# Altium integrated library VoltageConverter_old.IntLib: 87 symbols
Pins are listed as number, name and electrical type; pins without a type are passive.

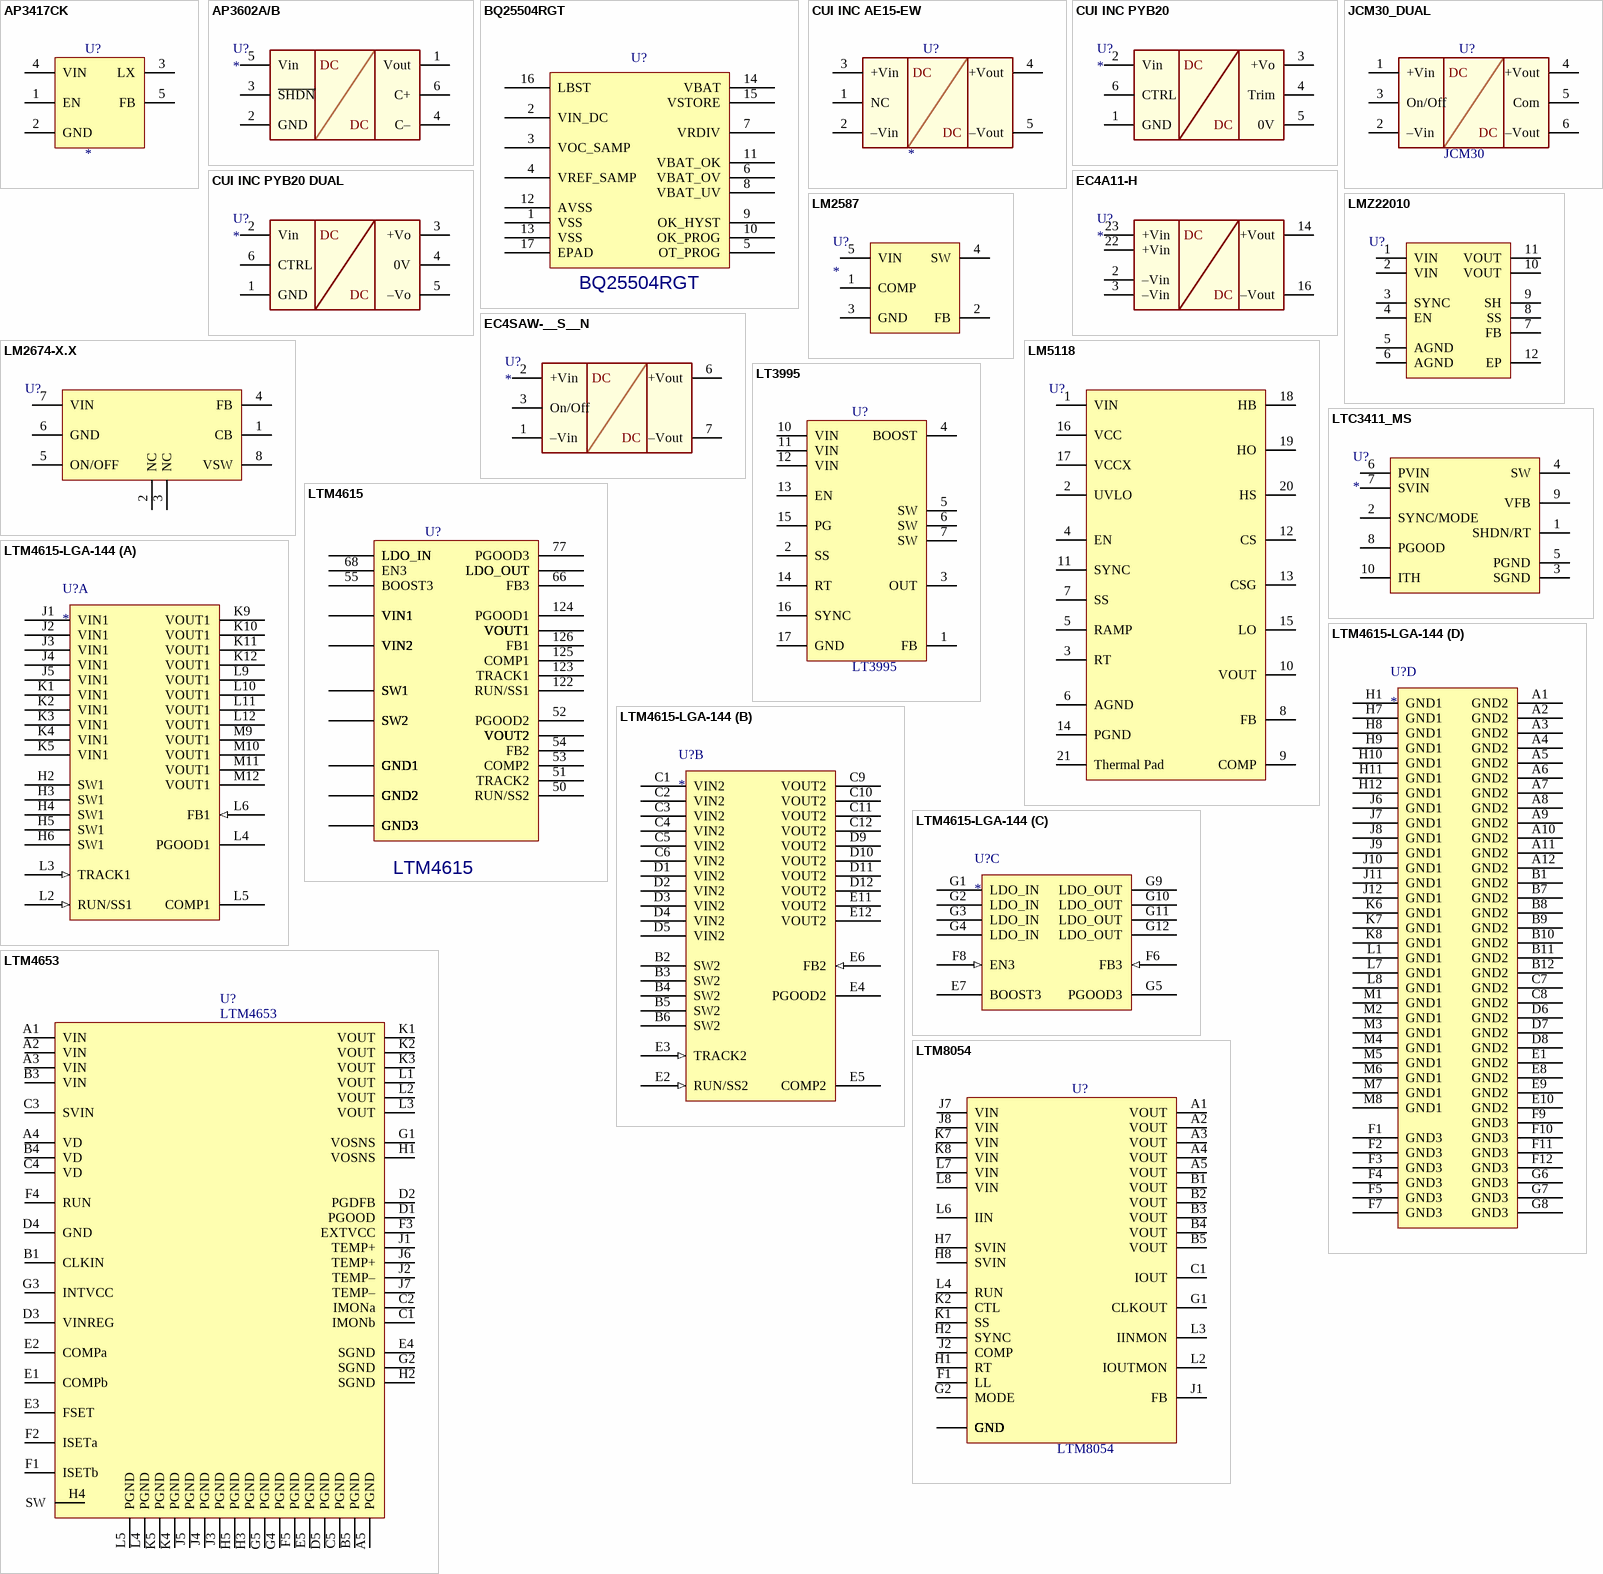
[diagram p0: symbols AP3417CK to LTM8054]

## AP3417CK
designator U?
1.5MHZ Synchronous Step-Down DC-DC Converter; Value: *
footprint SOT23-5 P0.95 C1.6x3.0 H1.3 (SOT23, 5-Leads, Body 1.6x3.0mm, Pitch 0.95mm, IPC Medium Density)
pins: 1 EN, 2 GND, 3 LX, 4 VIN, 5 FB

## AP3602A/B
designator U?
100mA REGULATED CHARGE PUMP; Value: *
footprint SOT23-6 P0.95 C1.5x3.0 H1.3 (SOT23, 6-Leads, Body 1.6x3.0mm, Pitch 0.95mm, IPC Medium Density)
pins: 1 Vout, 2 GND, 3 ~{SHDN}, 4 C–, 5 Vin, 6 C+
text: DC

## BQ25504RGT
designator U?
Ultra Low Power Boost Converter with  Battery Management; Value: BQ25504RGT
footprint QFN16 P0.5 T1.5x1.5 C3.0x3.0 H1.0
pins: 1 VSS, 2 VIN_DC, 3 VOC_SAMP, 4 VREF_SAMP, 5 OT_PROG, 6 VBAT_OV, 7 VRDIV, 8 VBAT_UV, 9 OK_HYST, 10 OK_PROG, 11 VBAT_OK, 12 AVSS, 13 VSS, 14 VBAT, 15 VSTORE, 16 LBST, 17 EPAD

## CUI INC AE15-EW
designator U?
DC-DC Converter; Value: *
footprint CUI INC AE15-EW (DC-DC Converter)
pins: 1 NC, 2 –Vin, 3 +Vin, 4 +Vout, 5 –Vout
text: DC

## CUI INC PYB20
designator U?
DC-DC Converter; Value: *
footprint CUI INC PYB20 (DC/DC Converter)
pins: 1 GND, 2 Vin, 3 +Vo, 4 Trim, 5 0V, 6 CTRL
text: DC

## CUI INC PYB20 DUAL
designator U?
DC-DC Converter; Value: *
footprint CUI INC PYB20 (DC/DC Converter)
pins: 1 GND, 2 Vin, 3 +Vo, 4 0V, 5 –Vo, 6 CTRL
text: DC

## EC4A11-H
designator U?
CINCON DC/DC CONVERTER IN 18-36V OUT 5V 1A; Value: *
footprint CINCON CASE A (CINCON DC/DC Converter, Body 20.30x31.80mm, Height 10.2mm)
pins: 2 –Vin, 3 –Vin, 9 NC hidden, 10 NC hidden, 11 NC hidden, 14 +Vout, 15 NC hidden, 16 –Vout, 22 +Vin, 23 +Vin
text: DC

## EC4SAW-__S__N
designator U?
CINCON EC4SAW-__S__N 5-6Watts Wide Input DC/DC Converter; Value: *
footprint CINCON CASE SA (CINCON DC/DC Converter, Body 9.2x21.8mm, Height 11.1mm)
pins: 1 –Vin, 2 +Vin, 3 On/Off, 5 NC hidden, 6 +Vout, 7 –Vout, 8 NC hidden
text: DC

## JCM30_DUAL
designator U?, comment JCM30
XP Power DC-DC Converter; Value: JCM30; Manufacturer: XP Power; Mouser No.: *
footprint JCM30 Series (XP Power DC/DC Converter, Body 25.4x25.4mm, Height 10.4mm)
pins: 1 +Vin, 2 –Vin, 3 On/Off, 4 +Vout, 5 Com, 6 –Vout
text: DC

## LM2587
designator U?
SIMPLE SWITCHER 5A Flyback Regulator; Value: *
footprint DPAK5 P1.7 C8.9x10.4 H4.6 (D2-PAK, 6-Pads, Body 8.9x10.4mm (max), IPC Medium Density)
pins: 1 COMP, 2 FB, 3 GND, 4 SW, 5 VIN

## LM2674-X.X
designator U?
SIMPLE SWITCHER Step-Down Voltage Regulator; Value: *
footprint SO8 P1.27 C4.0X5.0 H1.75 (8-Pin Small Outline Integrated Circuit 1.27 mm Pitch, IPC Medium Density)
pins: 1 CB, 2 NC, 3 NC, 4 FB, 5 ON/OFF, 6 GND, 7 VIN, 8 VSW

## LM5118
designator U?
LM5118, LM5118-Q1 Wide Voltage Range Buck-Boost Controller; Value: *
footprint TSSOP20 P0.65 C4.5X6.6 H1.2 T3.0x4.2 (TSSOP, 20-Leads, Body 4.5x6.60mm, Pitch 0.65mm, Thermal Pad 3.0x4.2mm)
pins: 1 VIN, 2 UVLO, 3 RT, 4 EN, 5 RAMP, 6 AGND, 7 SS, 8 FB, 9 COMP, 10 VOUT, 11 SYNC, 12 CS, 13 CSG, 14 PGND, 15 LO, 16 VCC, 17 VCCX, 18 HB, 19 HO, 20 HS, 21 Thermal Pad

## LMZ22010
designator U?
SIMPLE SWITCHER  step-down DC-DC; Value: *
footprint LMZ22010 (TO, 12-Leads, Body 15x15mm, Pitch 1.27mm, Lead Span 17.8mm, NSC Recommended)
pins: 1 VIN, 2 VIN, 3 SYNC, 4 EN, 5 AGND, 6 AGND, 7 FB, 8 SS, 9 SH, 10 VOUT, 11 VOUT, 12 EP

## LT3995
designator U?
60V, 3A, 2MHz Step-Down Switching Regulator; Value: LT3995
footprint MSOP16 P0.5 C3.0X4.0 T1.6X2.8 H1.1 (MSOP, 16-Leads, Body 3.0x4.0mm, Thermal 1.6x2.8, Pitch 0.50mm, IPC Medium Density)
pins: 1 FB, 2 SS, 3 OUT, 4 BOOST, 5 SW, 6 SW, 7 SW, 10 VIN, 11 VIN, 12 VIN, 13 EN, 14 RT, 15 PG, 16 SYNC, 17 GND

## LTC3411_MS
designator U?
Synchronous  Step-Down DC/DC Converter, 1.25A, 4MHz; Value: *
footprint MSOP10 P0.5 C3.0X3.0 H1.1 (MSOP, 10-Leads, Body 3.0x3.0mm, Pitch 0.50mm, IPC Medium Density)
pins: 1 SHDN/RT "Combination Shutdown and Timing Resistor Pin. The oscillator frequency is programmed by connecting a resistor from this pin to ground. Forcing this pin to SVIN causes the device to be shut down. In shutdown all functions are (See Datasheet)", 2 SYNC/MODE "Combination Mode Selection and Oscillator Synchronization Pin. This pin controls the operation of the device. When tied to SVIN or SGND, Burst Mode operation or pulse skipping mode is selected, respectively. If this pin is (See Datasheet)", 3 SGND "The Signal Ground Pin. All small-signal components and compensation components should be connected to this ground (see Board Layout Considerations).", 4 SW "The Switch Node Connection to the Inductor. This pin swings from PVIN to PGND.", 5 PGND "Main Power Ground Pin. Connect to the (-) terminal of COUT, and (-) terminal of CIN.", 6 PVIN "Main Supply Pin. Must be closely decoupled to PGND.", 7 SVIN "The Signal Power Pin. All active circuitry is powered from this pin. Must be closely decoupled to SGND. SVIN must be greater than or equal to PVIN.", 8 PGOOD "The Power Good Pin. This common drain logic output is pulled to SGND when the output voltage is not within +/-7% of regulation.", 9 VFB "Receives the feedback voltage from the external resistive divider across the output. Nominal voltage for this pin is 0.8V.", 10 ITH "Error Amplifier Compensation Point. The current comparator threshold increases with this control voltage. Nominal voltage range for this pin is 0.4V to 1.4V."

## LTM4615
designator U?
Triple Output, Low Voltage  DC/DC µModule Regulator; Value: *
footprint LGA144 P1.27 C15X15 H2.9 (Footprint not found)
pins: 1 GND2, 2 GND2, 3 GND2, 4 GND2, 5 GND2, 6 GND2, 7 GND2, 8 GND2, 9 GND2, 10 GND2, 11 GND2, 12 GND2, 13 GND2, 14 SW2, 15 SW2, 16 SW2, 17 SW2, 18 SW2, 19 GND2, 20 GND2, 21 GND2, 22 GND2, 23 GND2, 24 GND2, 25 VIN2, 26 VIN2, 27 VIN2, 28 VIN2, 29 VIN2, 30 VIN2, 31 GND2, 32 GND2, 33 VOUT2, 34 VOUT2, 35 VOUT2, 36 VOUT2, 37 VIN2, 38 VIN2, 39 VIN2, 40 VIN2, 41 VIN2, 42 GND2, 43 GND2, 44 GND2, 45 VOUT2, 46 VOUT2, 47 VOUT2, 48 VOUT2, 49 GND2, 50 RUN/SS2, 51 TRACK2, 52 PGOOD2, 53 COMP2, 54 FB2, 55 BOOST3, 56 GND2, 57 GND2, 58 GND2, 59 VOUT2, 60 VOUT2, 61 GND3, 62 GND3, 63 GND3, 64 GND3, 65 GND3, 66 FB3, 67 GND3, 68 EN3, 69 GND3, 70 GND3, 71 GND3, 72 GND3, 73 LDO_IN, 74 LDO_IN, 75 LDO_IN, 76 LDO_IN, 77 PGOOD3, 78 GND3, 79 GND3, 80 GND3, 81 LDO_OUT, 82 LDO_OUT, 83 LDO_OUT, 84 LDO_OUT, 85 GND1, 86 SW1, 87 SW1, 88 SW1, 89 SW1, 90 SW1, 91 GND1, 92 GND1, 93 GND1, 94 GND1, 95 GND1, 96 GND1, 97 VIN1, 98 VIN1, 99 VIN1, 100 VIN1, 101 VIN1, 102 GND1, 103 GND1, 104 GND1, 105 GND1, 106 GND1, 107 GND1, 108 GND1, 109 VIN1, 110 VIN1, 111 VIN1, 112 VIN1, 113 VIN1, 114 GND1, 115 GND1, 116 GND1, 117 VOUT1, 118 VOUT1, 119 VOUT1, 120 VOUT1, 121 GND1, 122 RUN/SS1, 123 TRACK1, 124 PGOOD1, 125 COMP1, 126 FB1, 127 GND1, 128 GND1, 129 VOUT1, 130 VOUT1, 131 VOUT1, 132 VOUT1, 133 GND1, 134 GND1, 135 GND1, 136 GND1, 137 GND1, 138 GND1, 139 GND1, 140 GND1, 141 VOUT1, 142 VOUT1, 143 VOUT1, 144 VOUT1

## LTM4615-LGA-144
designator U?
Triple Output, Low Voltage  DC/DC µModule Regulator; value: *
footprint LGA-144-05-08-1816_V (LGA, 144-Leads, Body 15x15mm, Pitch 1.27mm)
part A pins: H2 SW1 "The switching node of the circuit is used for testing purposes. This can be connected to copper on the board for improved thermal performance. SW1 and The switching node of the circuit is used for testing purposes. This can (See Datasheet)", H3 SW1 "The switching node of the circuit is used for testing purposes. This can be connected to copper on the board for improved thermal performance. SW1 and The switching node of the circuit is used for testing purposes. This can (See Datasheet)", H4 SW1 "The switching node of the circuit is used for testing purposes. This can be connected to copper on the board for improved thermal performance. SW1 and The switching node of the circuit is used for testing purposes. This can (See Datasheet)", H5 SW1 "The switching node of the circuit is used for testing purposes. This can be connected to copper on the board for improved thermal performance. SW1 and The switching node of the circuit is used for testing purposes. This can (See Datasheet)", H6 SW1 "The switching node of the circuit is used for testing purposes. This can be connected to copper on the board for improved thermal performance. SW1 and The switching node of the circuit is used for testing purposes. This can (See Datasheet)", J1 VIN1 (power) "Power Input Pins. Apply input voltage between these pins and GND pins. Recommend placing input decoupling capacitance directly between VIN pins and GND pins.", J2 VIN1 (power) "Power Input Pins. Apply input voltage between these pins and GND pins. Recommend placing input decoupling capacitance directly between VIN pins and GND pins.", J3 VIN1 (power) "Power Input Pins. Apply input voltage between these pins and GND pins. Recommend placing input decoupling capacitance directly between VIN pins and GND pins.", J4 VIN1 (power) "Power Input Pins. Apply input voltage between these pins and GND pins. Recommend placing input decoupling capacitance directly between VIN pins and GND pins.", J5 VIN1 (power) "Power Input Pins. Apply input voltage between these pins and GND pins. Recommend placing input decoupling capacitance directly between VIN pins and GND pins.", K1 VIN1 (power) "Power Input Pins. Apply input voltage between these pins and GND pins. Recommend placing input decoupling capacitance directly between VIN pins and GND pins.", K2 VIN1 (power) "Power Input Pins. Apply input voltage between these pins and GND pins. Recommend placing input decoupling capacitance directly between VIN pins and GND pins.", K3 VIN1 (power) "Power Input Pins. Apply input voltage between these pins and GND pins. Recommend placing input decoupling capacitance directly between VIN pins and GND pins.", K4 VIN1 (power) "Power Input Pins. Apply input voltage between these pins and GND pins. Recommend placing input decoupling capacitance directly between VIN pins and GND pins.", K5 VIN1 (power) "Power Input Pins. Apply input voltage between these pins and GND pins. Recommend placing input decoupling capacitance directly between VIN pins and GND pins.", K9 VOUT1 (power) "Power Output Pins. Apply output load between these pins and GND pins. Recommend placing output decoupling capacitance directly between these pins and GND pins. Review Table 4.", K10 VOUT1 (power) "Power Output Pins. Apply output load between these pins and GND pins. Recommend placing output decoupling capacitance directly between these pins and GND pins. Review Table 4.", K11 VOUT1 (power) "Power Output Pins. Apply output load between these pins and GND pins. Recommend placing output decoupling capacitance directly between these pins and GND pins. Review Table 4.", K12 VOUT1 (power) "Power Output Pins. Apply output load between these pins and GND pins. Recommend placing output decoupling capacitance directly between these pins and GND pins. Review Table 4.", L2 RUN/SS1 (in), L3 TRACK1 (in) "Output Voltage Tracking Pins. When the module is configured as a master output, then a soft-start capacitor is placed on the RUN/SS pin to ground to control the master ramp rate, or an external ramp can be applied to the (See Datasheet)", L4 PGOOD1 (oc) "Output Voltage Power Good Indicator. Open-drain logic output that is pulled to ground when the output voltage is not within +/-7.5% of the regulation point.", L5 COMP1 "Current Control Threshold and Error Amplifier Compensation Point. The current comparator threshold increases with this control voltage. Two power modules can current share when this pin is connected in parallel with the (See Datasheet)", L6 FB1 (in) "The Negative Input of the Switching Regulators’ Error Amplifier. Internally, these pins are connected to VOUT with a 4.99k precision resistor. Different output voltages can be programmed with an additional resistor betwee(See Datasheet)", L9 VOUT1 (power) "Power Output Pins. Apply output load between these pins and GND pins. Recommend placing output decoupling capacitance directly between these pins and GND pins. Review Table 4.", L10 VOUT1 (power) "Power Output Pins. Apply output load between these pins and GND pins. Recommend placing output decoupling capacitance directly between these pins and GND pins. Review Table 4.", L11 VOUT1 (power) "Power Output Pins. Apply output load between these pins and GND pins. Recommend placing output decoupling capacitance directly between these pins and GND pins. Review Table 4.", L12 VOUT1 (power) "Power Output Pins. Apply output load between these pins and GND pins. Recommend placing output decoupling capacitance directly between these pins and GND pins. Review Table 4.", M9 VOUT1 (power) "Power Output Pins. Apply output load between these pins and GND pins. Recommend placing output decoupling capacitance directly between these pins and GND pins. Review Table 4.", M10 VOUT1 (power) "Power Output Pins. Apply output load between these pins and GND pins. Recommend placing output decoupling capacitance directly between these pins and GND pins. Review Table 4.", M11 VOUT1 (power) "Power Output Pins. Apply output load between these pins and GND pins. Recommend placing output decoupling capacitance directly between these pins and GND pins. Review Table 4.", M12 VOUT1 (power) "Power Output Pins. Apply output load between these pins and GND pins. Recommend placing output decoupling capacitance directly between these pins and GND pins. Review Table 4."
part B pins: B2 SW2 "The switching node of the circuit is used for testing purposes. This can be connected to copper on the board for improved thermal performance. SW1 and SW2 must be floating on separate copper planes.", B3 SW2 "The switching node of the circuit is used for testing purposes. This can be connected to copper on the board for improved thermal performance. SW1 and SW2 must be floating on separate copper planes.", B4 SW2 "The switching node of the circuit is used for testing purposes. This can be connected to copper on the board for improved thermal performance. SW1 and SW2 must be floating on separate copper planes.", B5 SW2 "The switching node of the circuit is used for testing purposes. This can be connected to copper on the board for improved thermal performance. SW1 and SW2 must be floating on separate copper planes.", B6 SW2 "The switching node of the circuit is used for testing purposes. This can be connected to copper on the board for improved thermal performance. SW1 and SW2 must be floating on separate copper planes.", C1 VIN2 (power) "Power Input Pins. Apply input voltage between these pins and GND pins. Recommend placing input decoupling capacitance directly between VIN pins and GND pins.", C2 VIN2 (power) "Power Input Pins. Apply input voltage between these pins and GND pins. Recommend placing input decoupling capacitance directly between VIN pins and GND pins.", C3 VIN2 (power) "Power Input Pins. Apply input voltage between these pins and GND pins. Recommend placing input decoupling capacitance directly between VIN pins and GND pins.", C4 VIN2 (power) "Power Input Pins. Apply input voltage between these pins and GND pins. Recommend placing input decoupling capacitance directly between VIN pins and GND pins.", C5 VIN2 (power) "Power Input Pins. Apply input voltage between these pins and GND pins. Recommend placing input decoupling capacitance directly between VIN pins and GND pins.", C6 VIN2 (power) "Power Input Pins. Apply input voltage between these pins and GND pins. Recommend placing input decoupling capacitance directly between VIN pins and GND pins.", C9 VOUT2 (power) "Power Output Pins. Apply output load between these pins and GND pins. Recommend placing output decoupling capacitance directly between these pins and GND pins. Review Table 4.", C10 VOUT2 (power) "Power Output Pins. Apply output load between these pins and GND pins. Recommend placing output decoupling capacitance directly between these pins and GND pins. Review Table 4.", C11 VOUT2 (power) "Power Output Pins. Apply output load between these pins and GND pins. Recommend placing output decoupling capacitance directly between these pins and GND pins. Review Table 4.", C12 VOUT2 (power) "Power Output Pins. Apply output load between these pins and GND pins. Recommend placing output decoupling capacitance directly between these pins and GND pins. Review Table 4.", D1 VIN2 (power) "Power Input Pins. Apply input voltage between these pins and GND pins. Recommend placing input decoupling capacitance directly between VIN pins and GND pins.", D2 VIN2 (power) "Power Input Pins. Apply input voltage between these pins and GND pins. Recommend placing input decoupling capacitance directly between VIN pins and GND pins.", D3 VIN2 (power) "Power Input Pins. Apply input voltage between these pins and GND pins. Recommend placing input decoupling capacitance directly between VIN pins and GND pins.", D4 VIN2 (power) "Power Input Pins. Apply input voltage between these pins and GND pins. Recommend placing input decoupling capacitance directly between VIN pins and GND pins.", D5 VIN2 (power) "Power Input Pins. Apply input voltage between these pins and GND pins. Recommend placing input decoupling capacitance directly between VIN pins and GND pins.", D9 VOUT2 (power) "Power Output Pins. Apply output load between these pins and GND pins. Recommend placing output decoupling capacitance directly between these pins and GND pins. Review Table 4.", D10 VOUT2 (power) "Power Output Pins. Apply output load between these pins and GND pins. Recommend placing output decoupling capacitance directly between these pins and GND pins. Review Table 4.", D11 VOUT2 (power) "Power Output Pins. Apply output load between these pins and GND pins. Recommend placing output decoupling capacitance directly between these pins and GND pins. Review Table 4.", D12 VOUT2 (power) "Power Output Pins. Apply output load between these pins and GND pins. Recommend placing output decoupling capacitance directly between these pins and GND pins. Review Table 4.", E2 RUN/SS2 (in), E3 TRACK2 (in) "Output Voltage Tracking Pins. When the module is configured as a master output, then a soft-start capacitor is placed on the RUN/SS pin to ground to control the master ramp rate, or an external ramp can be applied to the (See Datasheet)", E4 PGOOD2 (oc) "Output Voltage Power Good Indicator. Open-drain logic output that is pulled to ground when the output voltage is not within +/-7.5% of the regulation point.", E5 COMP2 "Current Control Threshold and Error Amplifier Compensation Point. The current comparator threshold increases with this control voltage. Two power modules can current share when this pin is connected in parallel with the (See Datasheet)", E6 FB2 (in) "The Negative Input of the Switching Regulators’ Error Amplifier. Internally, these pins are connected to VOUT with a 4.99k precision resistor. Different output voltages can be programmed with an additional resistor betwee(See Datasheet)", E11 VOUT2 (power) "Power Output Pins. Apply output load between these pins and GND pins. Recommend placing output decoupling capacitance directly between these pins and GND pins. Review Table 4.", E12 VOUT2 (power) "Power Output Pins. Apply output load between these pins and GND pins. Recommend placing output decoupling capacitance directly between these pins and GND pins. Review Table 4."
part C pins: E7 BOOST3 (power) "Boost Supply for Driving the Internal VLDO NMOS Into Full Enhancement. The pin is use for testing the internal boost converter. The output is typically 5V.", F6 FB3 (in) "The Negative Input of the LDO Error Amplifier. Internally the pin is connected to LDO_OUT with a 4.99k resistor. Different output voltages can be programmed with an additional resistor between the FB3 and GND pins. See the (See Datasheet)", F8 EN3 (in) "VLDO Enable Pin.", G1 LDO_IN (power) "VLDO Input Power Pins. Place input capacitor close to these pins.", G2 LDO_IN (power) "VLDO Input Power Pins. Place input capacitor close to these pins.", G3 LDO_IN (power) "VLDO Input Power Pins. Place input capacitor close to these pins.", G4 LDO_IN (power) "VLDO Input Power Pins. Place input capacitor close to these pins.", G5 PGOOD3 (hiz) "VLDO Power Good Pin.", G9 LDO_OUT (power) "VLDO Output Power Pins. Place output capacitor close to these pins. Minimum 1mA load is necessary for proper output voltage accuracy.", G10 LDO_OUT (power) "VLDO Output Power Pins. Place output capacitor close to these pins. Minimum 1mA load is necessary for proper output voltage accuracy.", G11 LDO_OUT (power) "VLDO Output Power Pins. Place output capacitor close to these pins. Minimum 1mA load is necessary for proper output voltage accuracy.", G12 LDO_OUT (power) "VLDO Output Power Pins. Place output capacitor close to these pins. Minimum 1mA load is necessary for proper output voltage accuracy."
part D pins: A1 GND2 (power) "Power Ground Pins for Both Input and Output Returns.", A2 GND2 (power) "Power Ground Pins for Both Input and Output Returns.", A3 GND2 (power) "Power Ground Pins for Both Input and Output Returns.", A4 GND2 (power) "Power Ground Pins for Both Input and Output Returns.", A5 GND2 (power) "Power Ground Pins for Both Input and Output Returns.", A6 GND2 (power) "Power Ground Pins for Both Input and Output Returns.", A7 GND2 (power) "Power Ground Pins for Both Input and Output Returns.", A8 GND2 (power) "Power Ground Pins for Both Input and Output Returns.", A9 GND2 (power) "Power Ground Pins for Both Input and Output Returns.", A10 GND2 (power) "Power Ground Pins for Both Input and Output Returns.", A11 GND2 (power) "Power Ground Pins for Both Input and Output Returns.", A12 GND2 (power) "Power Ground Pins for Both Input and Output Returns.", B1 GND2 (power) "Power Ground Pins for Both Input and Output Returns.", B7 GND2 (power) "Power Ground Pins for Both Input and Output Returns.", B8 GND2 (power) "Power Ground Pins for Both Input and Output Returns.", B9 GND2 (power) "Power Ground Pins for Both Input and Output Returns.", B10 GND2 (power) "Power Ground Pins for Both Input and Output Returns.", B11 GND2 (power) "Power Ground Pins for Both Input and Output Returns.", B12 GND2 (power) "Power Ground Pins for Both Input and Output Returns.", C7 GND2 (power) "Power Ground Pins for Both Input and Output Returns.", C8 GND2 (power) "Power Ground Pins for Both Input and Output Returns.", D6 GND2 (power) "Power Ground Pins for Both Input and Output Returns.", D7 GND2 (power) "Power Ground Pins for Both Input and Output Returns.", D8 GND2 (power) "Power Ground Pins for Both Input and Output Returns.", E1 GND2 (power) "Power Ground Pins for Both Input and Output Returns.", E8 GND2 (power) "Power Ground Pins for Both Input and Output Returns.", E9 GND2 (power) "Power Ground Pins for Both Input and Output Returns.", E10 GND2 (power) "Power Ground Pins for Both Input and Output Returns.", F1 GND3 (power) "The power ground pins for both input and output returns for the internal VLDO.", F2 GND3 (power) "The power ground pins for both input and output returns for the internal VLDO.", F3 GND3 (power) "The power ground pins for both input and output returns for the internal VLDO.", F4 GND3 (power) "The power ground pins for both input and output returns for the internal VLDO.", F5 GND3 (power) "The power ground pins for both input and output returns for the internal VLDO.", F7 GND3 (power) "The power ground pins for both input and output returns for the internal VLDO.", F9 GND3 (power) "The power ground pins for both input and output returns for the internal VLDO.", F10 GND3 (power) "The power ground pins for both input and output returns for the internal VLDO.", F11 GND3 (power) "The power ground pins for both input and output returns for the internal VLDO.", F12 GND3 (power) "The power ground pins for both input and output returns for the internal VLDO.", G6 GND3 (power) "The power ground pins for both input and output returns for the internal VLDO.", G7 GND3 (power) "The power ground pins for both input and output returns for the internal VLDO.", G8 GND3 (power) "The power ground pins for both input and output returns for the internal VLDO.", H1 GND1 (power) "Power Ground Pins for Both Input and Output Returns.", H7 GND1 (power) "Power Ground Pins for Both Input and Output Returns.", H8 GND1 (power) "Power Ground Pins for Both Input and Output Returns.", H9 GND1 (power) "Power Ground Pins for Both Input and Output Returns.", H10 GND1 (power) "Power Ground Pins for Both Input and Output Returns.", H11 GND1 (power) "Power Ground Pins for Both Input and Output Returns.", H12 GND1 (power) "Power Ground Pins for Both Input and Output Returns.", J6 GND1 (power) "Power Ground Pins for Both Input and Output Returns.", J7 GND1 (power) "Power Ground Pins for Both Input and Output Returns.", J8 GND1 (power) "Power Ground Pins for Both Input and Output Returns.", J9 GND1 (power) "Power Ground Pins for Both Input and Output Returns.", J10 GND1 (power) "Power Ground Pins for Both Input and Output Returns.", J11 GND1 (power) "Power Ground Pins for Both Input and Output Returns.", J12 GND1 (power) "Power Ground Pins for Both Input and Output Returns.", K6 GND1 (power) "Power Ground Pins for Both Input and Output Returns.", K7 GND1 (power) "Power Ground Pins for Both Input and Output Returns.", K8 GND1 (power) "Power Ground Pins for Both Input and Output Returns.", L1 GND1 (power) "Power Ground Pins for Both Input and Output Returns.", L7 GND1 (power) "Power Ground Pins for Both Input and Output Returns.", L8 GND1 (power) "Power Ground Pins for Both Input and Output Returns.", M1 GND1 (power) "Power Ground Pins for Both Input and Output Returns.", M2 GND1 (power) "Power Ground Pins for Both Input and Output Returns.", M3 GND1 (power) "Power Ground Pins for Both Input and Output Returns.", M4 GND1 (power) "Power Ground Pins for Both Input and Output Returns.", M5 GND1 (power) "Power Ground Pins for Both Input and Output Returns.", M6 GND1 (power) "Power Ground Pins for Both Input and Output Returns.", M7 GND1 (power) "Power Ground Pins for Both Input and Output Returns.", M8 GND1 (power) "Power Ground Pins for Both Input and Output Returns."

## LTM4653
designator U?
Step-Down DC/DC μModule Regulator; Value: LTM4653
footprint BGA77 P1.27 C9X15 H5.0 (LGA77 P1.27 C9.0x15 H5.0)
pins: A1 VIN, A2 VIN, A3 VIN, A4 VD, A5 PGND, B1 CLKIN, B3 VIN, B4 VD, B5 PGND, C1 IMONb, C2 IMONa, C3 SVIN, C4 VD, C5 PGND, D1 PGOOD, D2 PGDFB, D3 VINREG, D4 GND, D5 PGND, E1 COMPb, E2 COMPa, E3 FSET, E4 SGND, E5 PGND, F1 ISETb, F2 ISETa, F3 EXTVCC, F4 RUN, F5 PGND, G1 VOSNS, G2 SGND, G3 INTVCC, G4 PGND, G5 PGND, H1 VOSNS, H2 SGND, H3 PGND, H4 SW, H5 PGND, J1 TEMP+, J2 TEMP–, J3 PGND, J4 PGND, J5 PGND, J6 TEMP+, J7 TEMP–, K1 VOUT, K2 VOUT, K3 VOUT, K4 PGND, K5 PGND, L1 VOUT, L2 VOUT, L3 VOUT, L4 PGND, L5 PGND

## LTM8054
designator U?
36VIN,5.4A Buck-Boost uModule Regulator; Value: LTM8054
footprint BGA88 P1.27 C11.4X15 H3.5 (BGA88 P1.27 C11.4.0x15 H3.5)
pins: A1 VOUT, A2 VOUT, A3 VOUT, A4 VOUT, A5 VOUT, A6 GND, A7 GND, A8 GND, B1 VOUT, B2 VOUT, B3 VOUT, B4 VOUT, B5 VOUT, B6 GND, B7 GND, B8 GND, C1 IOUT, C2 GND, C3 GND, C4 GND, C5 GND, C6 GND, C7 GND, C8 GND, D1 GND, D2 GND, D3 GND, D4 GND, D5 GND, D6 GND, D7 GND, D8 GND, E1 GND, E2 GND, E3 GND, E4 GND, E5 GND, E6 GND, E7 GND, E8 GND, F1 LL, F2 GND, F3 GND, F4 GND, F5 GND, F6 GND, F7 GND, F8 GND, G1 CLKOUT, G2 MODE, G3 GND, G4 GND, G5 GND, G6 GND, G7 GND, G8 GND, H1 RT, H2 SYNC, H3 GND, H4 GND, H5 GND, H6 GND, H7 SVIN, H8 SVIN, J1 FB, J2 COMP, J3 GND, J4 GND, J5 GND, J6 GND, J7 VIN, J8 VIN, K1 SS, K2 CTL, K3 GND, K4 GND, K5 GND, K6 GND, K7 VIN, K8 VIN, L1 GND, L2 IOUTMON, L3 IINMON, L4 RUN, L5 GND, L6 IIN, L7 VIN, L8 VIN

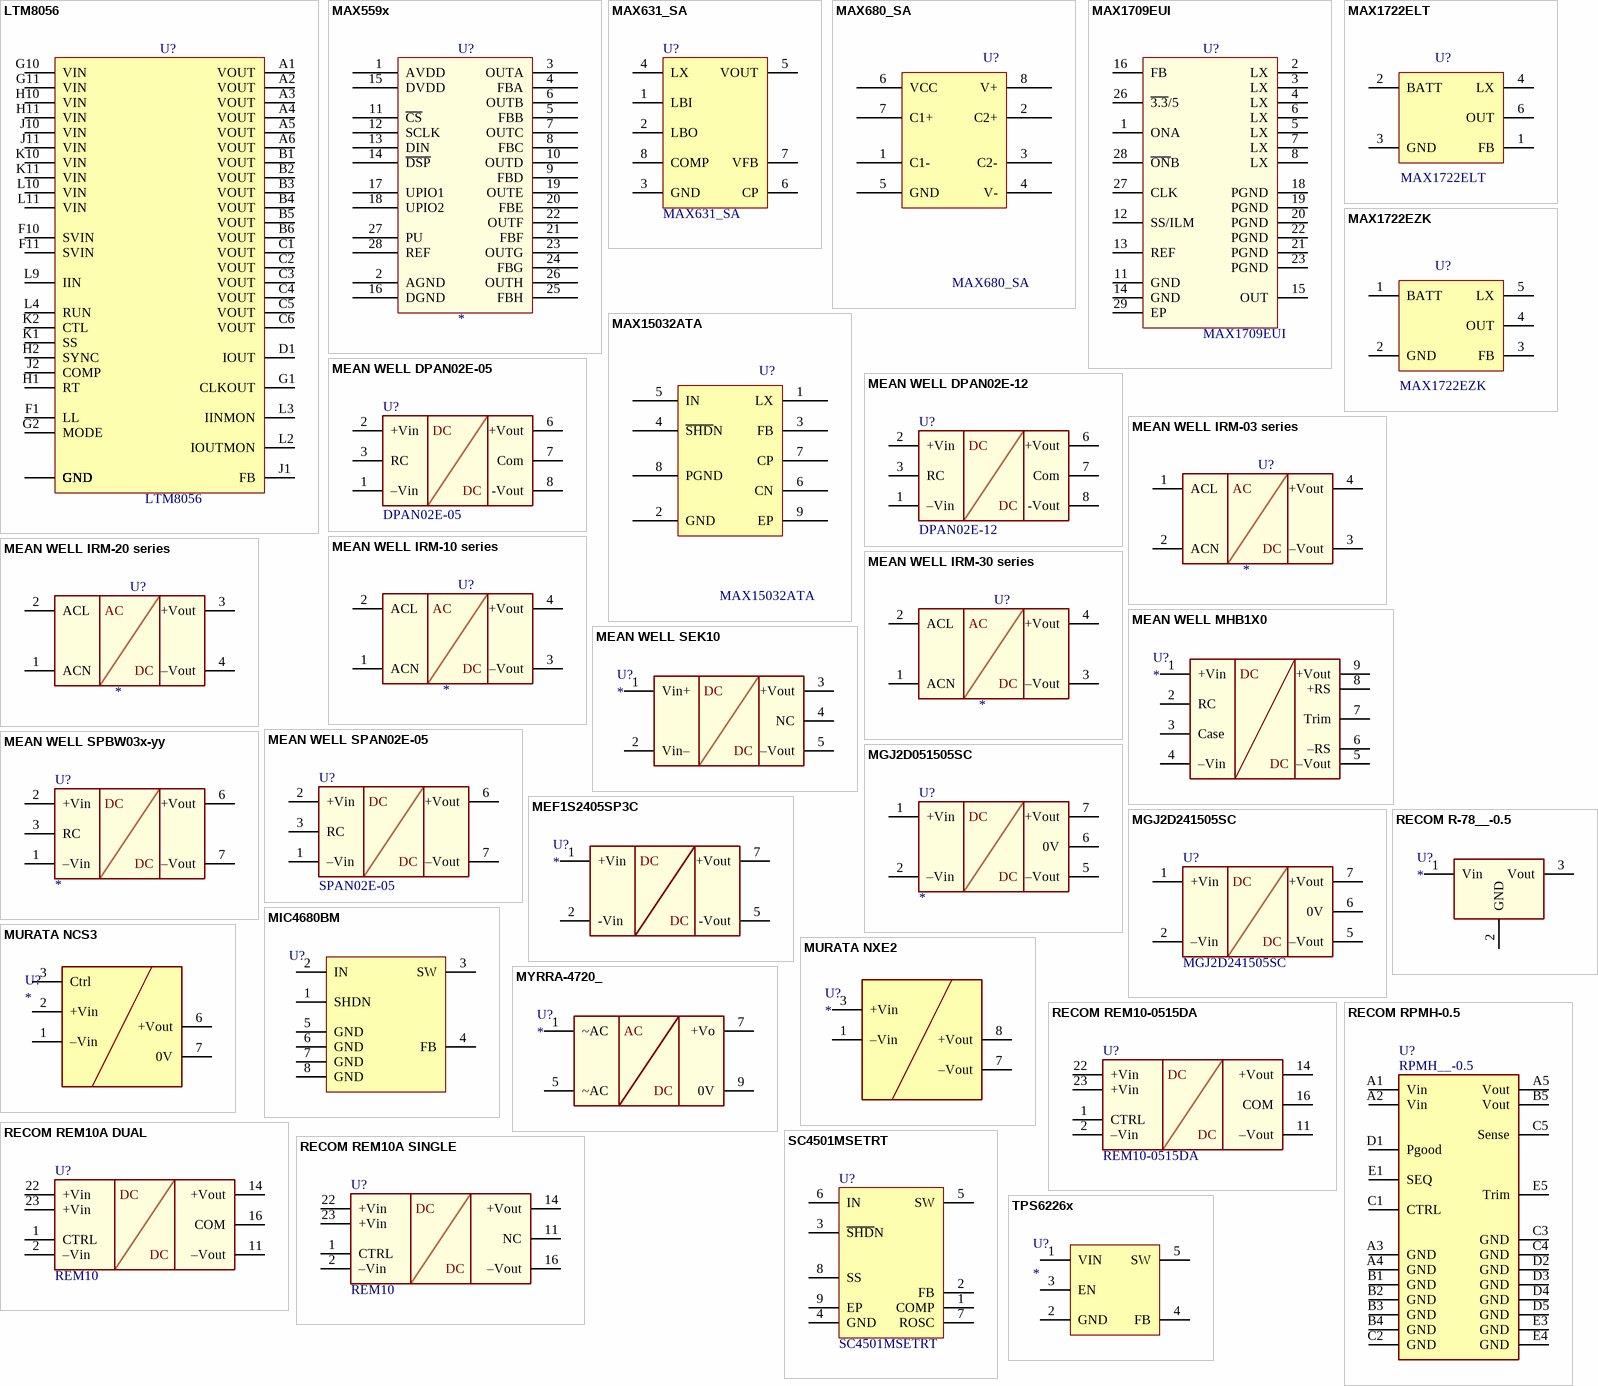
[diagram p1: symbols LTM8056 to TPS6226x]

## LTM8056
designator U?
58VIN,48VOUT Buck-Boost uModule Regulator; Value: LTM8056
footprint BGA121 P1.27 C15X15 H5.0 (LGA77 P1.27 C15x15 H5.0)
pins: A1 VOUT, A2 VOUT, A3 VOUT, A4 VOUT, A5 VOUT, A6 VOUT, A7 GND, A8 GND, A9 GND, A10 GND, A11 GND, B1 VOUT, B2 VOUT, B3 VOUT, B4 VOUT, B5 VOUT, B6 VOUT, B7 GND, B8 GND, B9 GND, B10 GND, B11 GND, C1 VOUT, C2 VOUT, C3 VOUT, C4 VOUT, C5 VOUT, C6 VOUT, C7 GND, C8 GND, C9 GND, C10 GND, C11 GND, D1 IOUT, D2 GND, D3 GND, D4 GND, D5 GND, D6 GND, D7 GND, D8 GND, D9 GND, D10 GND, D11 GND, E1 GND, E2 GND, E3 GND, E4 GND, E5 GND, E6 GND, E7 GND, E8 GND, E9 GND, E10 GND, E11 GND, F1 LL, F2 GND, F3 GND, F4 GND, F5 GND, F6 GND, F7 GND, F8 GND, F9 GND, F10 SVIN, F11 SVIN, G1 CLKOUT, G2 MODE, G3 GND, G4 GND, G5 GND, G6 GND, G7 GND, G8 GND, G9 GND, G10 VIN, G11 VIN, H1 RT, H2 SYNC, H3 GND, H4 GND, H5 GND, H6 GND, H7 GND, H8 GND, H9 GND, H10 VIN, H11 VIN, J1 FB, J2 COMP, J3 GND, J4 GND, J5 GND, J6 GND, J7 GND, J8 GND, J9 GND, J10 VIN, J11 VIN, K1 SS, K2 CTL, K3 GND, K4 GND, K5 GND, K6 GND, K7 GND, K8 GND, K9 GND, K10 VIN, K11 VIN, L1 GND, L2 IOUTMON, L3 IINMON, L4 RUN, L5 GND, L6 GND, L7 GND, L8 GND, L9 IIN, L10 VIN, L11 VIN

## MAX559x
designator U?
Buffered, Fast-Settling, Octal, 12/10/8-Bit, Voltage-Output DACs; value: *
footprint TSSOP28 P0.65 C4.5x9.8 H1.1 (TSOP, 28-Leads, Body 4.4x9.8mm, Pitch 0.65mm)
pins: 1 AVDD, 2 AGND, 3 OUTA, 4 FBA, 5 FBB, 6 OUTB, 7 OUTC, 8 FBC, 9 FBD, 10 OUTD, 11 ~{CS}, 12 SCLK, 13 DIN, 14 ~{DSP}, 15 DVDD, 16 DGND, 17 UPIO1, 18 UPIO2, 19 OUTE, 20 FBE, 21 FBF, 22 OUTF, 23 OUTG, 24 FBG, 25 FBH, 26 OUTH, 27 PU, 28 REF

## MAX631_SA
designator U?
Fixed/Adjustable Output Step-Up Switching Regulator; Value: MAX631_SA
footprint SO8 P1.27 C4.0X5.0 H1.75 (8-Pin Small Outline Integrated Circuit 1.27 mm Pitch, IPC Medium Density)
pins: 1 LBI, 2 LBO, 3 GND, 4 LX, 5 VOUT, 6 CP, 7 VFB, 8 COMP

## MAX680_SA
designator U?
Dual  charge-pump voltage converters; Value: MAX680_SA
footprint SO8 P1.27 C4.0X5.0 H1.75 (8-Pin Small Outline Integrated Circuit 1.27 mm Pitch, IPC Medium Density)
pins: 1 C1-, 2 C2+, 3 C2-, 4 V-, 5 GND, 6 VCC, 7 C1+, 8 V+

## MAX1709EUI
designator U?
4A, Low-Noise, High-Frequency, Step-Up DC-DC Converter; Value: MAX1709EUI
footprint TSSOP28 P0.65 T3.0x5.6 C4.5x9.8 H1.1 (TSOP, 28-Leads, Body 4.4x9.8mm, Pitch 0.65mm)
pins: 1 ONA, 2 LX, 3 LX, 4 LX, 5 LX, 6 LX, 7 LX, 8 LX, 11 GND, 12 SS/ILM, 13 REF, 14 GND, 15 OUT, 16 FB, 18 PGND, 19 PGND, 20 PGND, 21 PGND, 22 PGND, 23 PGND, 26 ~{3.3}/5, 27 CLK, 28 ~{ON}B, 29 EP

## MAX1722ELT
designator U?
400mV to 5.5V Input, nanoPower Synchronous  Boost Converter with True Shutdown; Value: MAX1722ELT
footprint uDFN6 P0.65 C2.0X2.0 H0.8
pins: 1 FB, 2 BATT, 3 GND, 4 LX, 6 OUT

## MAX1722EZK
designator U?
400mV to 5.5V Input, nanoPower Synchronous  Boost Converter with True Shutdown; Value: MAX1722EZK
footprint SOT23-5 P0.95 C1.6x3.0 H1.3 (SOT23, 5-Leads, Body 1.6x3.0mm, Pitch 0.95mm, IPC Medium Density)
pins: 1 BATT, 2 GND, 3 FB, 4 OUT, 5 LX

## MAX15032ATA
designator U?
Ultra Low Power Boost Converter with  Battery Management; Value: MAX15032ATA
footprint TDFN8 P0.65 T1.5X2.3 C3.0X3.0 H0.8 (TDFN 8-Leads, Body 3.00x3.00mm, Pitch 0.65mm, IPC Medium Density)
pins: 1 LX, 2 GND, 3 FB, 4 ~{SHD}N, 5 IN, 6 CN, 7 CP, 8 PGND, 9 EP

## MEAN WELL DPAN02E-05
designator U?, comment DPAN02E-05
2W  SIP Package DC-DC Regulated Converter; Manufacturer: Mean Well; Value: DPAN02E-05; Mouser No: 709-DPAN02E-05
footprint MEAN WELL D/SPAN02 (DC/DC Mean Well C9.2x21.8 H11.1)
pins: 1 –Vin, 2 +Vin, 3 RC, 5 NC hidden, 6 +Vout, 7 Com, 8 -Vout
text: DC

## MEAN WELL DPAN02E-12
designator U?, comment DPAN02E-12
2W  SIP Package DC-DC Regulated Converter; Manufacturer: Mean Well; Value: DPAN02E-12; Mouser No: 709-DPAN02E-12
footprint MEAN WELL D/SPAN02 (DC/DC Mean Well C9.2x21.8 H11.1)
pins: 1 –Vin, 2 +Vin, 3 RC, 5 NC hidden, 6 +Vout, 7 Com, 8 -Vout
text: DC

## MEAN WELL IRM-03 series
designator U?
AC-DC 3W Single Output Encapsulated Type Converter; Value: *
footprint MEAN WELL IRM-03 Series (AC-DC Mean Well C24.0x37.0 H15.0)
pins: 1 ACL, 2 ACN, 3 –Vout, 4 +Vout
text: AC; DC

## MEAN WELL IRM-10 series
designator U?
AC-DC 10W Single Output Encapsulated Type Converter; Value: *
footprint MEAN WELL IRM-10 Series (AC-DC Mean Well C45.7x25.4 H21.5)
pins: 1 ACN, 2 ACL, 3 –Vout, 4 +Vout
text: AC; DC

## MEAN WELL IRM-20 series
designator U?
AC-DC 20W Single Output Encapsulated Type Converter; Value: *
footprint MEAN WELL IRM-20 Series (AC-DC Mean Well C27.2x52.4 H24)
pins: 1 ACN, 2 ACL, 3 +Vout, 4 –Vout
text: AC; DC

## MEAN WELL IRM-30 series
designator U?
AC-DC 30W Single Output Encapsulated Type Converter; Value: *
footprint MEAN WELL IRM-30 Series (AC-DC Mean Well C39.0x69.5 H24.0)
pins: 1 ACN, 2 ACL, 3 –Vout, 4 +Vout
text: AC; DC

## MEAN WELL MHB1X0
designator U?
DC-DC Half-Brick Regulated Single Output Converter; Value: *
footprint MEAN WELL MHB1X0 (DC/DC Converter)
pins: 1 +Vin, 2 RC, 3 Case, 4 –Vin, 5 –Vout, 6 –RS, 7 Trim, 8 +RS, 9 +Vout
text: DC

## MEAN WELL SEK10
designator U?
10W DC-DC Regulated Single Output Converter; Value: *
footprint MEAN WELL SEK10 (DC-DC Converter C25.4x50.8 H11.3)
pins: 1 Vin+, 2 Vin–, 3 +Vout, 4 NC, 5 –Vout
text: DC

## MEAN WELL SPAN02E-05
designator U?, comment SPAN02E-05
2W  SIP Package DC-DC Regulated Converter; Manufacturer: Mean Well; Value: SPAN02E-05; Mouser No: 709-SPAN02E-05
footprint MEAN WELL D/SPAN02 (DC/DC Mean Well C9.2x21.8 H11.1)
pins: 1 –Vin, 2 +Vin, 3 RC, 5 NC hidden, 6 +Vout, 7 –Vout, 8 NC hidden
text: DC

## MEAN WELL SPBW03x-yy
designator U?
3W SIP Package DC-DC Regulated Converter; Value: *
footprint MEAN WELL D/SPBW03x-yy (AC-DC Mean Well C9.2x21.8 H11.1)
pins: 1 –Vin, 2 +Vin, 3 RC, 5 NC hidden, 6 +Vout, 7 –Vout, 8 NC hidden
text: DC

## MEF1S2405SP3C
designator U?
MURATA DC/DC CONVERTER IN 24V OUT 5V 200mA; Value: *
footprint MURATA SP3C (MURATA DC/DC Converter, Body 6.2x19.7mm, Height 10.2mm)
pins: 1 +Vin, 2 -Vin, 5 -Vout, 7 +Vout
text: DC

## MGJ2D051505SC
designator U?
MURATA DC/DC CONVERTER IN 5V OUT1 15V 80mA OUT2 -5V 40mA; Value: *
footprint MURATA MGJ2 (MURATA DC/DC Converter, Body 10.1x19.7mm, Height 12.7mm)
pins: 1 +Vin, 2 –Vin, 5 –Vout, 6 0V, 7 +Vout
text: DC

## MGJ2D241505SC
designator U?
MURATA DC/DC CONVERTER MGJ2; Value: MGJ2D241505SC; Manufacturer: Murata; Mouser No.: 580-MGJ2D241505SC
footprint MURATA MGJ2 (MURATA DC/DC Converter, Body 10.1x19.7mm, Height 12.7mm)
pins: 1 +Vin, 2 –Vin, 5 –Vout, 6 0V, 7 +Vout
text: DC

## MIC4680BM
designator U?
1A 200kHz SuperSwitcher Buck regulator; Value: MIC4680BM
footprint SO8 P1.27 C4.0X5.0 H1.75 (8-Pin Small Outline Integrated Circuit 1.27 mm Pitch, IPC Medium Density)
pins: 1 SHDN, 2 IN, 3 SW, 4 FB, 5 GND, 6 GND, 7 GND, 8 GND

## MURATA NCS3
designator U?
DC/DC Converter
footprint MURATA NCS3 (DC/DC Converter 22.0x 9.4)
pins: 1 –Vin, 2 +Vin, 3 Ctrl, 6 +Vout, 7 0V

## MURATA NXE2
designator U?
DC/DC Converter
footprint Murata NXE2 (DC/DC Converter)
pins: 1 –Vin, 3 +Vin, 7 –Vout, 8 +Vout

## MYRRA-4720_
designator U?
7.5 Watt AC-DC Switch Power Supply; Value: *
footprint MYRRA-4720_ (7.5 Watt AC-DC Switch Power Supply Body 41x35mm, Height 25mm)
pins: 1 ~AC, 5 ~AC, 7 +Vo, 9 0V
text: AC; DC

## RECOM R-78__-0.5
designator U?
RECOM DC/DC CONVERTER R-78xx-0.5; Value: *
footprint RECOM R-78__-0.5 (RECOM DC/DC SUPPLY)
pins: 1 Vin, 2 GND, 3 Vout

## RECOM REM10-0515DA
designator U?, comment REM10-0515DA
RECOM DC/DC Converter; Manufacturer: RECOM; Mouser No: 919-REM10-0515DA; Value: REM10-0515DA
footprint RECOM REM10 REV.A (DC/DC Converter)
pins: 1 CTRL, 2 –Vin, 11 –Vout, 14 +Vout, 16 COM, 22 +Vin, 23 +Vin
text: DC

## RECOM REM10A DUAL
designator U?, comment REM10
DC/DC Converter; Manufacturer: RECOM; Mouser No: REM10; Value: REM10
footprint RECOM REM10 REV.A (DC/DC Converter)
pins: 1 CTRL, 2 –Vin, 11 –Vout, 14 +Vout, 16 COM, 22 +Vin, 23 +Vin
text: DC

## RECOM REM10A SINGLE
designator U?, comment REM10
DC/DC Converter; Manufacturer: RECOM; Mouser No: REM10; Value: REM10
footprint RECOM REM10 REV.A (DC/DC Converter)
pins: 1 CTRL, 2 –Vin, 11 NC, 14 +Vout, 16 –Vout, 22 +Vin, 23 +Vin
text: DC

## RECOM RPMH-0.5
designator U?, comment RPMH__-0.5
DC/DC Converter; Value: RPMH__-0.5
footprint RECOM RPMH-0.5 (RECOM RPMH-0.5, LGA 25, P=2.29 C=12.19x12.19 H=3.75)
pins: A1 Vin, A2 Vin, A3 GND, A4 GND, A5 Vout, B1 GND, B2 GND, B3 GND, B4 GND, B5 Vout, C1 CTRL, C2 GND, C3 GND, C4 GND, C5 Sense, D1 Pgood, D2 GND, D3 GND, D4 GND, D5 GND, E1 SEQ, E3 GND, E4 GND, E5 Trim

## SC4501MSETRT
designator U?
2Amp, 2MHz Step-Up Switching Regulator with Soft-Start; Value: SC4501MSETRT
footprint MSOP8 P0.65 T2.1x2.1 C3.0X3.0 H1.1 (MSOP, 8-Leads, Themal 2.1x2.1mm,Body 3.00x3.00mm, Pitch 0.65mm, IPC Medium Density)
pins: 1 COMP, 2 FB, 3 ~{SHD}N, 4 GND, 5 SW, 6 IN, 7 ROSC, 8 SS, 9 EP

## TPS6226x
designator U?
2.25-MHz 600-mA Step Down Converter in 2 x 2 SOT Package; Value: *
footprint SOT23-5 P0.95 C1.6x3.0 H1.3 (SOT23, 5-Leads, Body 1.6x3.0mm, Pitch 0.95mm, IPC Medium Density)
pins: 1 VIN, 2 GND, 3 EN, 4 FB, 5 SW

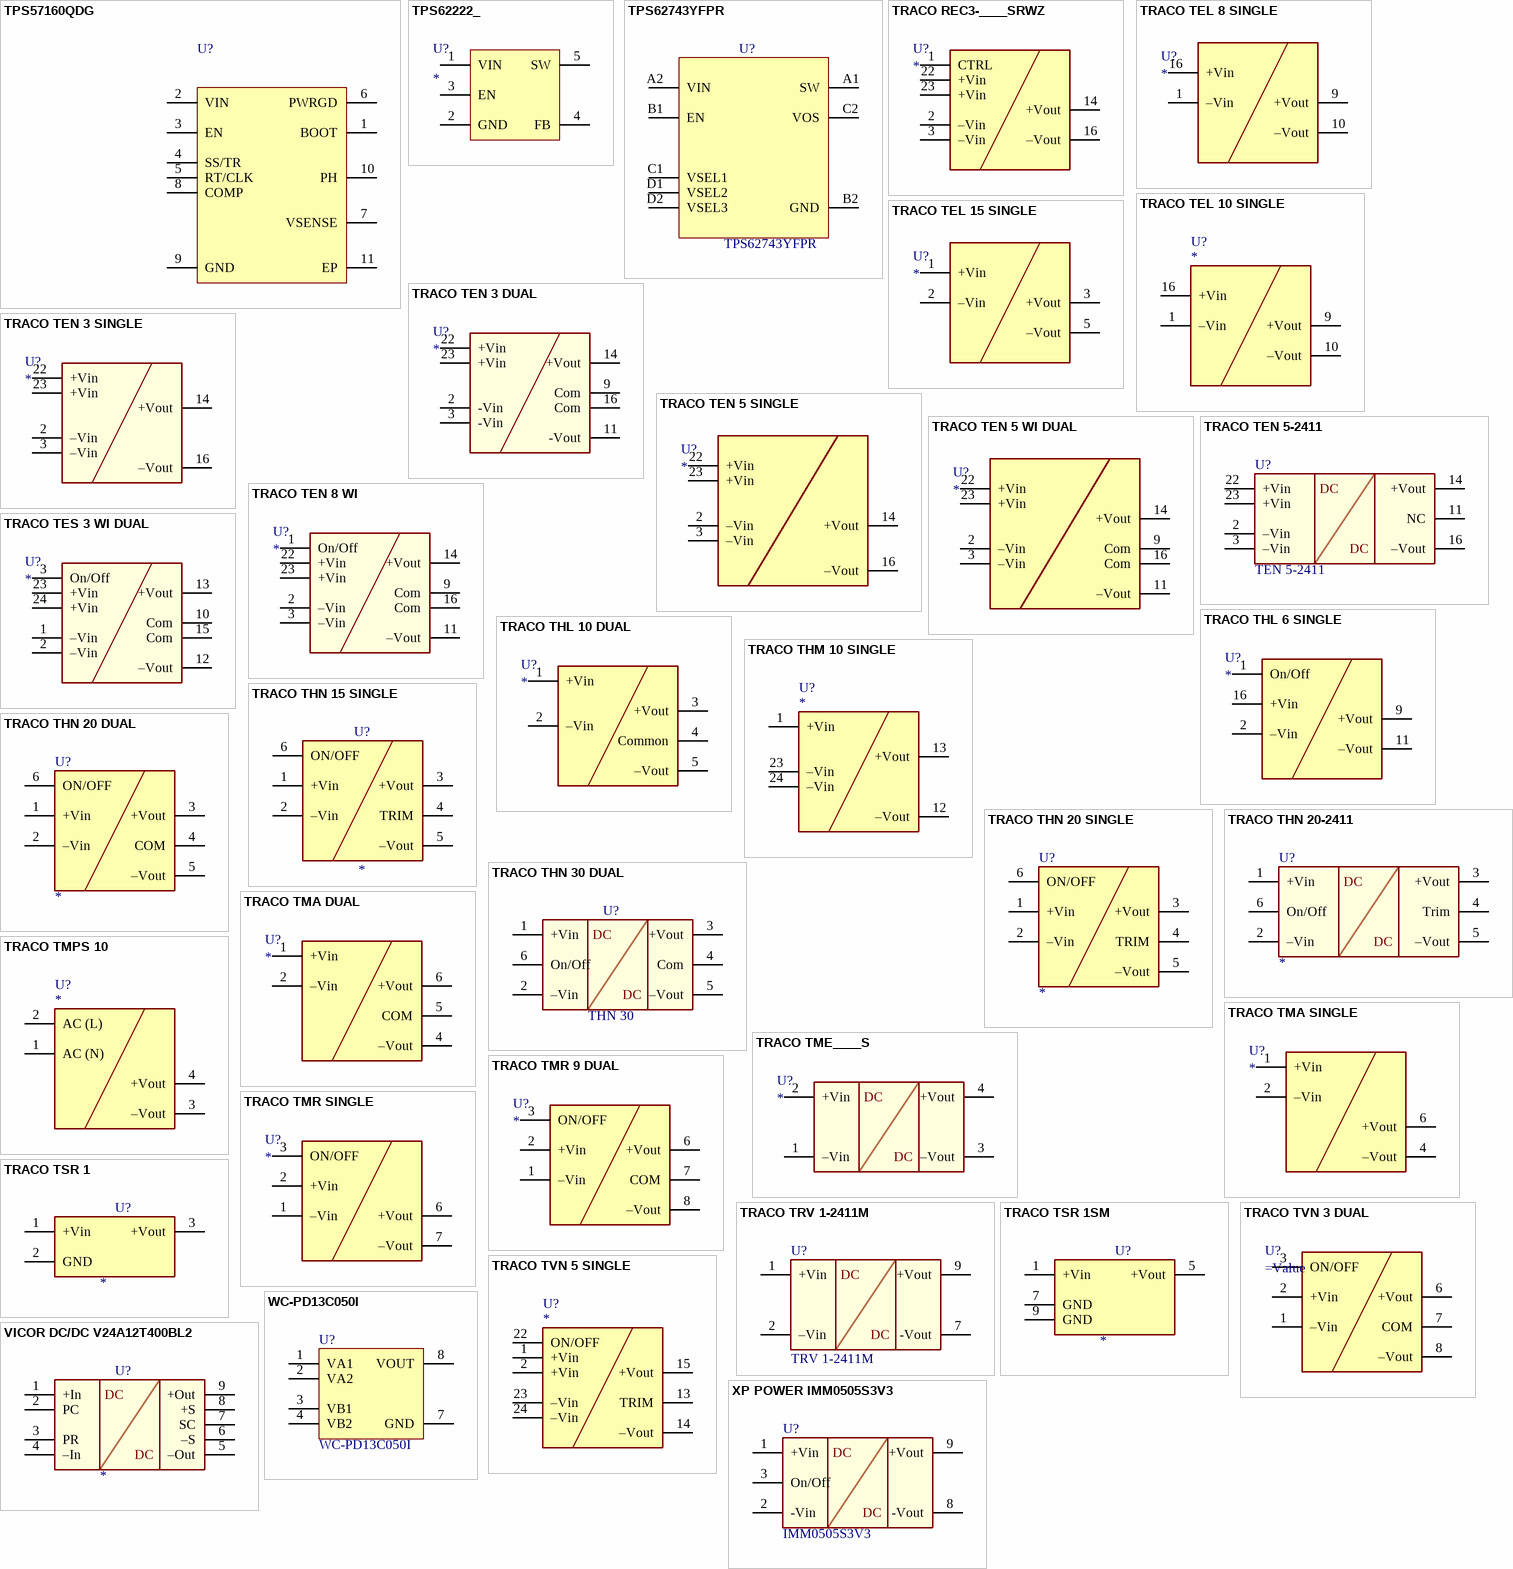
[diagram p2: symbols TPS57160QDG to XP POWER IMM0505S3V3]

## TPS57160QDG
designator U?
1.5-A 60-V Step-DownDC-DCConverter; Value: TPS57160QDG
footprint MSOP10 P0.5 C3.0X3.0 T1.9X1.6 H1.1 (MSOP, 10-Leads, Body 3.0x3.0mm, Thermal 1.9x1.6, Pitch 0.50mm, IPC Medium Density)
pins: 1 BOOT, 2 VIN, 3 EN, 4 SS/TR, 5 RT/CLK, 6 PWRGD, 7 VSENSE, 8 COMP, 9 GND, 10 PH, 11 EP

## TPS62222_
designator U?
2.25-MHz 600-mA Step Down Converter in 2 x 2 SOT Package; Value: *
footprint SOT23-5 P0.95 C1.6x3.0 H1.3 (SOT23, 5-Leads, Body 1.6x3.0mm, Pitch 0.95mm, IPC Medium Density)
pins: 1 VIN, 2 GND, 3 EN, 4 FB, 5 SW

## TPS62743YFPR
designator U?
Ultra-low-power DCDC converter; Value: TPS62743YFPR
footprint YFP8 P0.4 C0.6x1.9 H0.5
pins: A1 SW, A2 VIN, B1 EN, B2 GND, C1 VSEL1, C2 VOS, D1 VSEL2, D2 VSEL3
1 alternate drawing of the same symbol

## TRACO REC3-____SRWZ
designator U?
DC/DC Converter
footprint TRACO REC3-____SRWZ (DC/DC Converter)
pins: 1 CTRL, 2 –Vin, 3 –Vin, 14 +Vout, 16 –Vout, 22 +Vin, 23 +Vin

## TRACO TEL 8 SINGLE
designator U?
DC/DC Converter; Value: *
footprint Traco TEL 8 SINGLE (DC/DC Converter)
pins: 1 –Vin, 9 +Vout, 10 –Vout, 16 +Vin

## TRACO TEL 10 SINGLE
designator U?
DC/DC Converter; Value: *
footprint Traco TEL 10 SINGLE (DC/DC Converter)
pins: 1 –Vin, 9 +Vout, 10 –Vout, 16 +Vin

## TRACO TEL 15 SINGLE
designator U?
DC/DC Converter
footprint TRACO TEL 15 Single (DC/DC Converter)
pins: 1 +Vin, 2 –Vin, 3 +Vout, 5 –Vout

## TRACO TEN 3 DUAL
designator U?
DC/DC Converter; Value: *
footprint TRACO TEN 3 DUAL (DC/DC Converter)
pins: 2 -Vin, 3 -Vin, 9 Com, 11 -Vout, 14 +Vout, 16 Com, 22 +Vin, 23 +Vin

## TRACO TEN 3 SINGLE
designator U?
DC/DC Converter; Value: *
footprint TRACO TEN 3 Single (DC/DC Converter)
pins: 2 –Vin, 3 –Vin, 14 +Vout, 16 –Vout, 22 +Vin, 23 +Vin

## TRACO TEN 5 SINGLE
designator U?
DC/DC Converter
footprint TRACO TEN 5 SINGLE (DC/DC Converter)
pins: 2 –Vin, 3 –Vin, 14 +Vout, 16 –Vout, 22 +Vin, 23 +Vin

## TRACO TEN 5 WI DUAL
designator U?
DC/DC Converter
footprint TRACO TEN 5 WI DUAL (DC/DC Converter)
pins: 2 –Vin, 3 –Vin, 9 Com, 11 –Vout, 14 +Vout, 16 Com, 22 +Vin, 23 +Vin

## TRACO TEN 5-2411
designator U?, comment TEN 5-2411
DC/DC Converter; Manufacturer: TRACO Power; Mouser No: 495-TEN-5-2411; Value: TEN 5-2411
footprint TRACO TEN 5 SINGLE (DC/DC Converter)
pins: 2 –Vin, 3 –Vin, 11 NC, 14 +Vout, 16 –Vout, 22 +Vin, 23 +Vin
text: DC

## TRACO TEN 8 WI
designator U?
DC/DC Converter; Value: *
footprint TRACO TEN 8 WI DUAL (DC/DC Converter)
pins: 1 On/Off, 2 –Vin, 3 –Vin, 9 Com, 11 –Vout, 14 +Vout, 16 Com, 22 +Vin, 23 +Vin

## TRACO TES 3 WI DUAL
designator U?
DC/DC Converter; Value: *
footprint TRACO TES 3 WI (DC/DC Converter)
pins: 1 –Vin, 2 –Vin, 3 On/Off, 10 Com, 12 –Vout, 13 +Vout, 15 Com, 23 +Vin, 24 +Vin

## TRACO THL 6 SINGLE
designator U?
DC/DC Converter
footprint Traco THL 6 Single (DC/DC Converter)
pins: 1 On/Off, 2 –Vin, 9 +Vout, 11 –Vout, 16 +Vin

## TRACO THL 10 DUAL
designator U?
DC/DC Converter
footprint Traco THL 10 DUAL (DC/DC Converter)
pins: 1 +Vin, 2 –Vin, 3 +Vout, 4 Common, 5 –Vout

## TRACO THM 10 SINGLE
designator U?
DC/DC Converter; Value: *
footprint TRACO THM 10 SINGLE (DC/DC Converter)
pins: 1 +Vin, 12 –Vout, 13 +Vout, 23 –Vin, 24 –Vin

## TRACO THN 15 SINGLE
designator U?
DC/DC Converter; Value: *
footprint Traco THN 15 (DC/DC Converter)
pins: 1 +Vin, 2 –Vin, 3 +Vout, 4 TRIM, 5 –Vout, 6 ON/OFF

## TRACO THN 20 DUAL
designator U?
DC/DC Converter
footprint Traco THN 20 (DC/DC Converter)
pins: 1 +Vin, 2 –Vin, 3 +Vout, 4 COM, 5 –Vout, 6 ON/OFF

## TRACO THN 20 SINGLE
designator U?
DC/DC Converter
footprint Traco THN 20 (DC/DC Converter)
pins: 1 +Vin, 2 –Vin, 3 +Vout, 4 TRIM, 5 –Vout, 6 ON/OFF

## TRACO THN 20-2411
designator U?
DC/DC Converter; Manufacturer: TRACO Power; Value: THN 20-2411; Mouser No: 495-THN-20-2411
footprint Traco THN 20 (DC/DC Converter)
pins: 1 +Vin, 2 –Vin, 3 +Vout, 4 Trim, 5 –Vout, 6 On/Off
text: DC

## TRACO THN 30 DUAL
designator U?, comment THN 30
TRACO Power DC-DC Converter; Value: THN 30; Manufacturer: TRACO Power; Mouser No.: ?
footprint TRACO THN 30 Series (XP Power DC/DC Converter, Body 25.4x25.4mm, Height 9.9mm)
pins: 1 +Vin, 2 –Vin, 3 +Vout, 4 Com, 5 –Vout, 6 On/Off
text: DC

## TRACO TMA DUAL
designator U?
DC/DC Converter; Value: *
footprint TRACO TMA DUAL (DC/DC Converter)
pins: 1 +Vin, 2 –Vin, 4 –Vout, 5 COM, 6 +Vout

## TRACO TMA SINGLE
designator U?
DC/DC Converter; Value: *
footprint TRACO TMA SINGLE (DC/DC Converter)
pins: 1 +Vin, 2 –Vin, 4 –Vout, 6 +Vout

## TRACO TME____S
designator U?
DC/DC Converter; Value: *
footprint TRACO TME____S (TRACO DC/DC SUPPLY)
pins: 1 –Vin, 2 +Vin, 3 –Vout, 4 +Vout
text: DC

## TRACO TMPS 10
designator U?
AC/DC Converter; Value: *
footprint TRACO TMPS 10 (AC/DC Converter)
pins: 1 AC (N), 2 AC (L), 3 –Vout, 4 +Vout

## TRACO TMR 9 DUAL
designator U?
DC/DC Converter
footprint TRACO TMR 9 Dual (DC/DC Converter)
pins: 1 –Vin, 2 +Vin, 3 ON/OFF, 6 +Vout, 7 COM, 8 –Vout

## TRACO TMR SINGLE
designator U?
DC/DC Converter; Value: *
footprint TRACO TMR SINGLE (DC/DC Converter)
pins: 1 –Vin, 2 +Vin, 3 ON/OFF, 6 +Vout, 7 –Vout

## TRACO TRV 1-2411M
designator U?, comment TRV 1-2411M
DC/DC MEDICAL CONVERTER SINGLE TRV 1M SERIES 1 Watt; Manufacturer: TRACO POWER; Value: TRV 1-2411M; Mouser No: 495-TRV1-2411M
footprint TRACO TRV 1M SINGLE (DC/DC Converter)
pins: 1 +Vin, 2 –Vin, 7 -Vout, 9 +Vout
text: DC

## TRACO TSR 1
designator U?
DC/DC Converter; Value: *
footprint TRACO TSR 1 (DC/DC Converter)
pins: 1 +Vin, 2 GND, 3 +Vout

## TRACO TSR 1SM
designator U?
DC/DC Converter; Value: *
footprint TRACO TSR 1SM (DC/DC Converter)
pins: 1 +Vin, 5 +Vout, 7 GND, 9 GND

## TRACO TVN 3 DUAL
designator U?
DC/DC Converter; =Value: *
footprint TRACO TVN 3 (DC/DC Converter)
pins: 1 –Vin, 2 +Vin, 3 ON/OFF, 6 +Vout, 7 COM, 8 –Vout

## TRACO TVN 5 SINGLE
designator U?
DC/DC Converter; Value: *
footprint TRACO TVN 5 SINGLE (DC/DC Converter)
pins: 1 +Vin, 2 +Vin, 13 TRIM, 14 –Vout, 15 +Vout, 22 ON/OFF, 23 –Vin, 24 –Vin

## VICOR DC/DC V24A12T400BL2
designator U?
DC/DC Converter; Value: *
footprint VICOR DC/DC V24A12T400BL2 (DC/DC Converter)
pins: 1 +In, 2 PC, 3 PR, 4 –In, 5 –Out, 6 –S, 7 SC, 8 +S, 9 +Out
text: DC

## WC-PD13C050I
designator U?
power-over-ethernet module; Value: WC-PD13C050I
footprint WC-PD13C050I (power-over-ethernet module)
pins: 1 VA1, 2 VA2, 3 VB1, 4 VB2, 7 GND, 8 VOUT

## XP POWER IMM0505S3V3
designator U?, comment IMM0505S3V3
ISOLIERTE DC-DC-WANDLER DC-DC, 5W, 2:1 input, Medical Approvals, SIP9; Manufacturer: XP Power; Mouser No: 209-IMM0505S3V3; Value: IMM0505S3V3
footprint XP POWER IMM05 Single Series (ISOLIERTE DC-DC-WANDLER DC-DC, 5W, 2:1 input, Medical Approvals, SIP9)
pins: 1 +Vin, 2 -Vin, 3 On/Off, 8 -Vout, 9 +Vout
text: DC